# Altium schematic symbol library Switch_TE_FSM4JH_eec.SchLib: 1 symbol
Pins are listed as number, name and electrical type; pins without a type are passive.

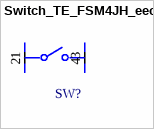
[diagram p0: symbol Switch_TE_FSM4JH_eec]

## Switch_TE_FSM4JH_eec
designator SW?
SWITCH TACTILE SPST-NO 0.05A 24V; Part Number: FSM4JH; Manufacturer: TE; Voltage: 12; helpURL: https://upverter.com/upn/revision/266e2d494f5bd45c/; ComponentLink2Description: Datasheet; Temperature: -35°C to +85°C; Package: SW_PTH_SPST; Supplier 2: Mouser; Supplier 1: Digi-Key; ComponentLink1URL: https://upverter.com/upn/revision/266e2d494f5bd45c/; Supplier Part Number 2: 506-FSM4JH; Supplier Part Number 1: 450-1650-ND; ComponentLink1Description: Upverter; ComponentLink2URL: http://www.te.com/commerce/DocumentDelivery/DDEController?Action=srchrtrv&DocNm=1825910&DocType=Customer+Drawing&DocLang=English; RoHS: TRUE; Mouser Part Number: 506-FSM4JH; Temperature Range High: +85°C; Digikey Description: SWITCH TACTILE SPST-NO 0.05A 24V; Digikey Part Number: 450-1650-ND; Lead Free: yes; Temperature Range Low: -35°C
footprint TE_FSM4JH_0
pins: 1, 2, 3, 4